# Altium footprint library PCB - CONNECTOR - HARWIN - HARWIN M20-9960445.PcbLib: 1 footprints
Each footprint in its own frame and in the unit in brackets; x right, y up, seen from the top. Pads: shape width x height; smd on the part's side, far side on the other; paste and mask are expansions set on the pad; w line width, h text height; cw(c..) or ccw(c..) is an arc to the next point about the centre after c.
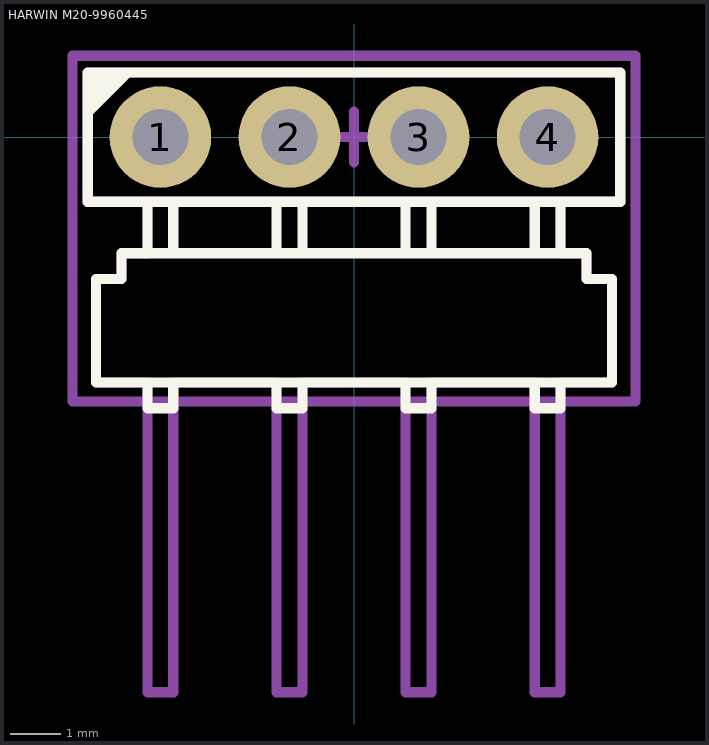
[diagram p0: the footprint, top view; thin cyan lines are the x and y axes]

## HARWIN M20-9960445 [mm] "2.54mm DIL PC TAIL PIN HEADER ASSEMBLY"
height 2.54
pads (4):
  round 2 hole 1.1: 1(-3.81,0) 2(-1.27,0) 3(1.27,0) 4(3.81,0)
Top Overlay:
  region: -5.19,1.3 -5.19,0.4 -4.29,1.3
  lines w0.2: -4.064,-4.826 -4.064,-5.334 -3.556,-5.334 -3.556,-4.826 ; -4.064,-2.286 -4.064,-1.27 ; -3.556,-2.286 -3.556,-1.27 ; -1.524,-4.826 -1.524,-5.334 -1.016,-5.334 -1.016,-4.826 ; -1.524,-2.286 -1.524,-1.27 ; -1.016,-2.286 -1.016,-1.27 ; 1.016,-4.826 1.016,-5.334 1.524,-5.334 1.524,-4.826 ; 1.016,-2.286 1.016,-1.27 ; 1.524,-2.286 1.524,-1.27 ; 3.556,-4.826 3.556,-5.334 4.064,-5.334 4.064,-4.826 ; 3.556,-2.286 3.556,-1.27 ; 4.064,-2.286 4.064,-1.27 ; -5.24,-1.27 5.24,-1.27 5.24,1.27 -5.24,1.27 -5.24,-1.27 ; -5.08,-4.826 5.08,-4.826 5.08,-2.794 4.572,-2.794 4.572,-2.286 -4.572,-2.286 -4.572,-2.794 -5.08,-2.794 -5.08,-4.826
Top Assembly:
  lines w0.2: -4.064,-1.27 -4.064,-2.286 -4.572,-2.286 -4.572,-2.794 -5.08,-2.794 -5.08,-4.826 -4.064,-4.826 -4.064,-10.922 -3.556,-10.922 -3.556,-4.826 -1.524,-4.826 -1.524,-10.922 -1.016,-10.922 -1.016,-4.826 1.016,-4.826 1.016,-10.922 1.524,-10.922 1.524,-4.826 3.556,-4.826 3.556,-10.922 4.064,-10.922 4.064,-4.826 5.08,-4.826 5.08,-2.794 4.572,-2.794 4.572,-2.286 4.064,-2.286 4.064,-1.27 ; -0.5,0 0.5,0 ; 0,-0.5 0,0.5 ; -5.24,-1.27 5.24,-1.27 5.24,1.27 -5.24,1.27 -5.24,-1.27
Top Courtyard (Mech15):
  lines w0.2: -5.54,-5.2 -5.54,1.6 5.54,1.6 5.54,-5.2 -5.54,-5.2
3D body "HARWIN M20-9960445.step": height 2.54, standoff -3, extent -5.08,-10.9 5.08,0.32